# Altium footprint library CAP 1U.PcbLib: 1 footprints
Each footprint in its own frame and in the unit in brackets; x right, y up, seen from the top. Pads: shape width x height; smd on the part's side, far side on the other; paste and mask are expansions set on the pad; w line width, h text height; cw(c..) or ccw(c..) is an arc to the next point about the centre after c.
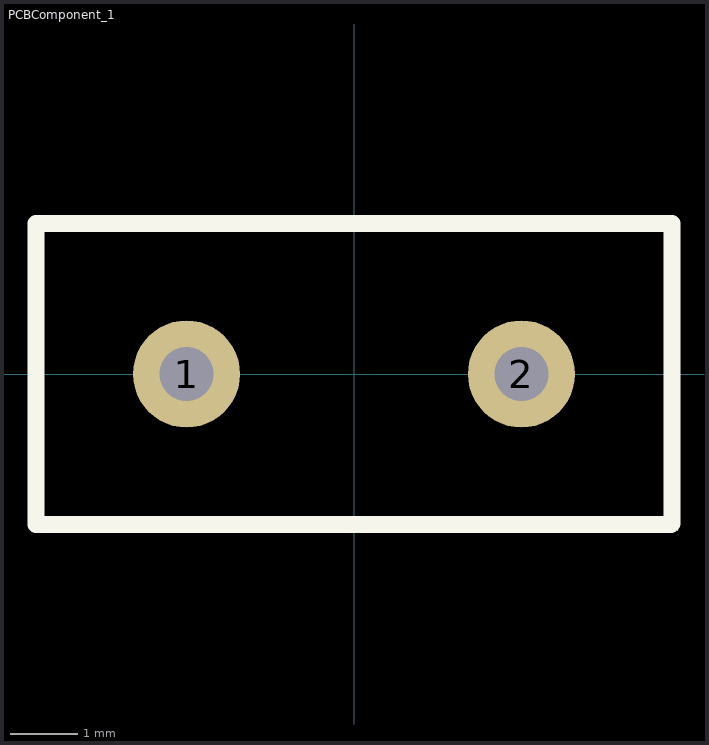
[diagram p0: the footprint, top view; thin cyan lines are the x and y axes]

## PCBComponent_1 [mm]
pads (2):
  round 1.6 hole 0.8: 1(-2.5,0) 2(2.5,0)
Top Overlay:
  lines w0.254: -4.75,-2.25 4.735,-2.25 4.75,-2.235 4.75,2.25 -4.75,2.25 -4.75,-2.25